# Altium schematic symbol library CJ431.Schlib: 1 symbol
Pins are listed as number, name and electrical type; pins without a type are passive.

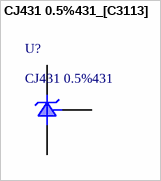
[diagram p0: symbol CJ431 0.5%431_[C3113]]

## CJ431 0.5%431_[C3113]
designator U?, comment CJ431 0.5%431
电压基准
footprint SOT-23(SOT-23-3)
pins: 1 R, 2 K, 3 A